# Altium footprint library WH1602L.PcbLib: 1 footprints
Each footprint in its own frame and in the unit in brackets; x right, y up, seen from the top. Pads: shape width x height; smd on the part's side, far side on the other; paste and mask are expansions set on the pad; w line width, h text height; cw(c..) or ccw(c..) is an arc to the next point about the centre after c.
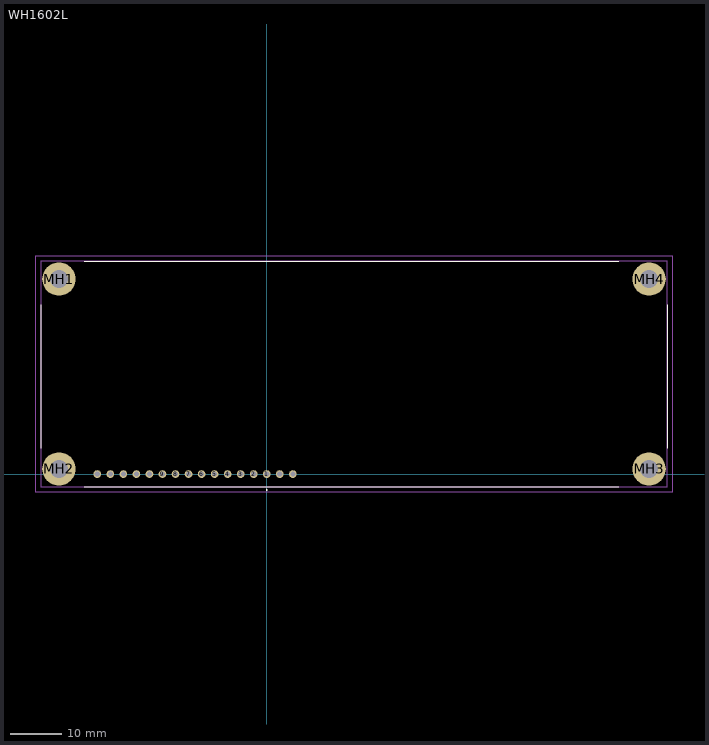
[diagram p0: the footprint, top view; thin cyan lines are the x and y axes]

## WH1602L [mm]
pads (20):
  round 1.5 hole 1: 1(0,0) 2(-2.54,0) 3(-5.08,0) 4(-7.62,0) 5(-10.16,0) 6(-12.7,0) 7(-15.24,0) 8(-17.78,0) 9(-20.32,0) 10(-22.86,0) 11(-25.4,0) 12(-27.94,0) 13(-30.48,0) 14(-33.02,0) 15(2.54,0) 16(5.08,0)
  round 6.5 hole 3.5: MH1(-40.5,38) MH2(-40.5,1) MH3(74.5,1) MH4(74.5,38)
Top Overlay:
  lines w0.1: -44,5.08 -44,33.02 ; -35.56,-2.5 68.58,-2.5 ; -35.56,41.5 68.58,41.5 ; 78,5.08 78,33.02
  lines w0.2: 0,-3.2 cw(c0,-3.1) 0,-3 ; 0,-3.2 0,-3.2 ; 0,-3.2 ccw(c0,-3.1) 0,-3 ; 0,-3.2 cw(c0,-3.1) 0,-3 ; 0,-3 0,-3 ; 0,-3 0,-3
Mechanical 15:
  lines w0.2: -44,-2.5 78,-2.5 78,41.5 -44,41.5 -44,-2.5
Mechanical 20:
  lines w0.1: -45,-3.5 79,-3.5 79,42.5 -45,42.5 -45,-3.5
3D body "WH1602L.stp": height 5.8, standoff -4.65, extent -10,-3.376 10,3.376